# Altium footprint library PVSON.PcbLib: 1 footprints
Each footprint in its own frame and in the unit in brackets; x right, y up, seen from the top. Pads: shape width x height; smd on the part's side, far side on the other; paste and mask are expansions set on the pad; w line width, h text height; cw(c..) or ccw(c..) is an arc to the next point about the centre after c.
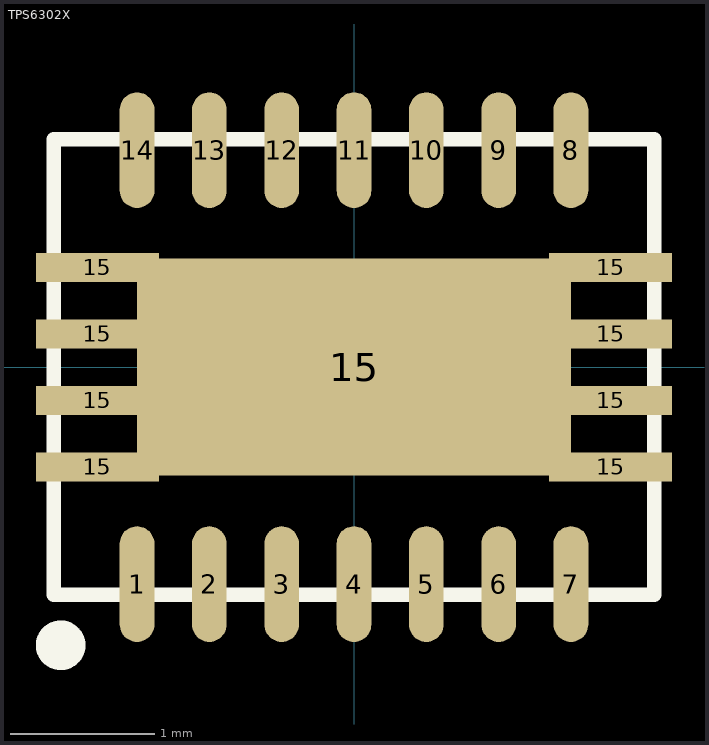
[diagram p0: the footprint, top view; thin cyan lines are the x and y axes]

## TPS6302X [mm]
pads (23):
  oval 0.24x0.8 smd: 1(-1.5,-1.5) 2(-1,-1.5) 3(-0.5,-1.5) 4(0,-1.5) 5(0.5,-1.5) 6(1,-1.5) 7(1.5,-1.5) 8(1.5,1.5) 9(1,1.5) 10(0.5,1.5) 11(0,1.5) 12(-0.5,1.5) 13(-1,1.5) 14(-1.5,1.5)
  rect 0.85x0.2 smd: 15(-1.775,-0.69) 15(-1.775,-0.23) 15(-1.775,0.23) 15(-1.775,0.69) 15(1.775,-0.69) 15(1.775,-0.23) 15(1.775,0.23) 15(1.775,0.69)
  rect 3x1.5 smd: 15(0,0)
Top Overlay:
  circle w0.2: c-2.028,-1.923 r0.072
  lines w0.1: -2.075,-1.575 -2.075,1.575 2.075,1.575 2.075,-1.575 -2.075,-1.575
Mechanical 15:
  circle w0.05: c0,0 r0.35
  lines w0.05: -0.5,0 0.5,0 ; 0,-0.5 0,0.5
3D body "User Library-R-PVSON-N14.STEP": height 1, standoff -0.05, extent -2.075,-1.575 2.079,1.599